# Altium integrated library Circuit Protection -TVSP_rev15a (1).intlib: 320 symbols (part 4 of 4)
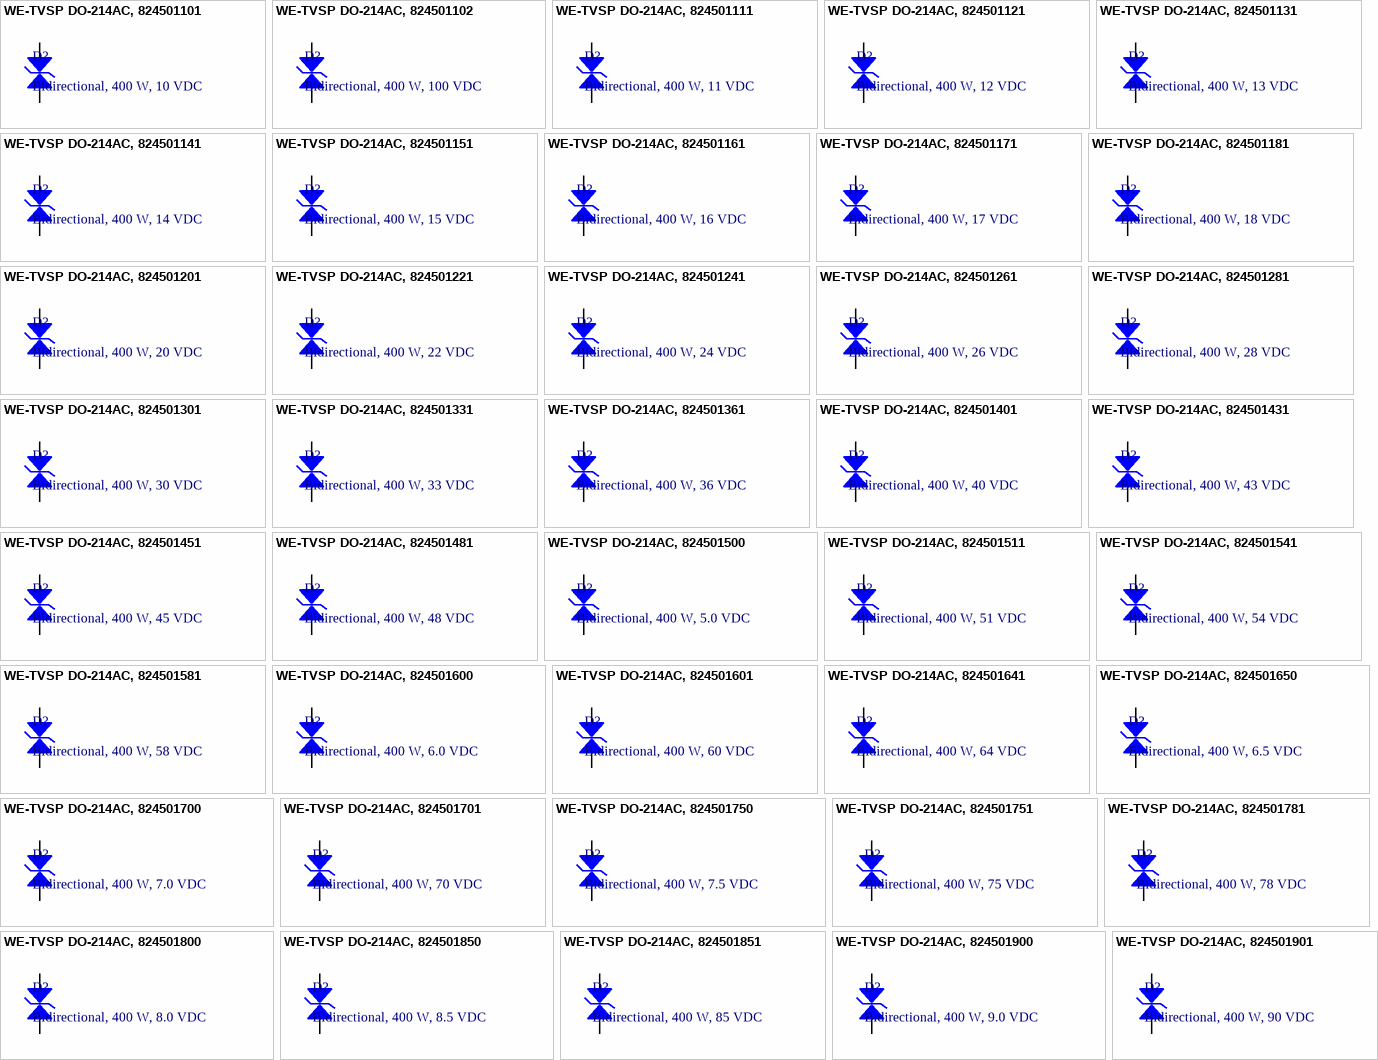
[diagram p10: symbols WE-TVSP DO-214AC, 824501101 to WE-TVSP DO-214AC, 824501901]

## WE-TVSP DO-214AC, 824501601
designator D?, comment Bidirectional, 400 W, 60 VDC
WE-TVSP Power TVS Diode, bidirectional, 400 W, 60 VDC; partNo: 824501601; Manufacturer: Wurth Elektronik; ComponentLink1Description: Manufacturer; ComponentLink1URL: http://www.we-online.de; Created by: Baojun Chen; Created Date: Nov.2015; ComponentLink2Description: Datasheet; ComponentLink2URL: http://katalog.we-online.de/pbs/datasheet/824501601.pdf
footprint DO-214AC_Bidirectional
pins: 1, 2

## WE-TVSP DO-214AC, 824501641
designator D?, comment Bidirectional, 400 W, 64 VDC
WE-TVSP Power TVS Diode, bidirectional, 400 W, 64 VDC; partNo: 824501641; Manufacturer: Wurth Elektronik; ComponentLink1Description: Manufacturer; ComponentLink1URL: http://www.we-online.de; Created by: Baojun Chen; Created Date: Nov.2015; ComponentLink2Description: Datasheet; ComponentLink2URL: http://katalog.we-online.de/pbs/datasheet/824501641.pdf
footprint DO-214AC_Bidirectional
pins: 1, 2

## WE-TVSP DO-214AC, 824501650
designator D?, comment Bidirectional, 400 W, 6.5 VDC
WE-TVSP Power TVS Diode, bidirectional, 400 W, 6.5 VDC; partNo: 824501650; Manufacturer: Wurth Elektronik; ComponentLink1Description: Manufacturer; ComponentLink1URL: http://www.we-online.de; Created by: Baojun Chen; Created Date: Nov.2015; ComponentLink2Description: Datasheet; ComponentLink2URL: http://katalog.we-online.de/pbs/datasheet/824501650.pdf
footprint DO-214AC_Bidirectional
pins: 1, 2

## WE-TVSP DO-214AC, 824501700
designator D?, comment Bidirectional, 400 W, 7.0 VDC
WE-TVSP Power TVS Diode, bidirectional, 400 W, 7.0 VDC; partNo: 824501700; Manufacturer: Wurth Elektronik; ComponentLink1Description: Manufacturer; ComponentLink1URL: http://www.we-online.de; Created by: Baojun Chen; Created Date: Nov.2015; ComponentLink2Description: Datasheet; ComponentLink2URL: http://katalog.we-online.de/pbs/datasheet/824501700.pdf
footprint DO-214AC_Bidirectional
pins: 1, 2

## WE-TVSP DO-214AC, 824501701
designator D?, comment Bidirectional, 400 W, 70 VDC
WE-TVSP Power TVS Diode, bidirectional, 400 W, 70 VDC; partNo: 824501701; Manufacturer: Wurth Elektronik; ComponentLink1Description: Manufacturer; ComponentLink1URL: http://www.we-online.de; Created by: Baojun Chen; Created Date: Nov.2015; ComponentLink2Description: Datasheet; ComponentLink2URL: http://katalog.we-online.de/pbs/datasheet/824501701.pdf
footprint DO-214AC_Bidirectional
pins: 1, 2

## WE-TVSP DO-214AC, 824501750
designator D?, comment Bidirectional, 400 W, 7.5 VDC
WE-TVSP Power TVS Diode, bidirectional, 400 W, 7.5 VDC; partNo: 824501750; Manufacturer: Wurth Elektronik; ComponentLink1Description: Manufacturer; ComponentLink1URL: http://www.we-online.de; Created by: Baojun Chen; Created Date: Nov.2015; ComponentLink2Description: Datasheet; ComponentLink2URL: http://katalog.we-online.de/pbs/datasheet/824501750.pdf
footprint DO-214AC_Bidirectional
pins: 1, 2

## WE-TVSP DO-214AC, 824501751
designator D?, comment Bidirectional, 400 W, 75 VDC
WE-TVSP Power TVS Diode, bidirectional, 400 W, 75 VDC; partNo: 824501751; Manufacturer: Wurth Elektronik; ComponentLink1Description: Manufacturer; ComponentLink1URL: http://www.we-online.de; Created by: Baojun Chen; Created Date: Nov.2015; ComponentLink2Description: Datasheet; ComponentLink2URL: http://katalog.we-online.de/pbs/datasheet/824501751.pdf
footprint DO-214AC_Bidirectional
pins: 1, 2

## WE-TVSP DO-214AC, 824501781
designator D?, comment Bidirectional, 400 W, 78 VDC
WE-TVSP Power TVS Diode, bidirectional, 400 W, 78 VDC; partNo: 824501781; Manufacturer: Wurth Elektronik; ComponentLink1Description: Manufacturer; ComponentLink1URL: http://www.we-online.de; Created by: Baojun Chen; Created Date: Nov.2015; ComponentLink2Description: Datasheet; ComponentLink2URL: http://katalog.we-online.de/pbs/datasheet/824501781.pdf
footprint DO-214AC_Bidirectional
pins: 1, 2

## WE-TVSP DO-214AC, 824501800
designator D?, comment Bidirectional, 400 W, 8.0 VDC
WE-TVSP Power TVS Diode, bidirectional, 400 W, 8.0 VDC; partNo: 824501800; Manufacturer: Wurth Elektronik; ComponentLink1Description: Manufacturer; ComponentLink1URL: http://www.we-online.de; Created by: Baojun Chen; Created Date: Nov.2015; ComponentLink2Description: Datasheet; ComponentLink2URL: http://katalog.we-online.de/pbs/datasheet/824501800.pdf
footprint DO-214AC_Bidirectional
pins: 1, 2

## WE-TVSP DO-214AC, 824501850
designator D?, comment Bidirectional, 400 W, 8.5 VDC
WE-TVSP Power TVS Diode, bidirectional, 400 W, 8.5 VDC; partNo: 824501850; Manufacturer: Wurth Elektronik; ComponentLink1Description: Manufacturer; ComponentLink1URL: http://www.we-online.de; Created by: Baojun Chen; Created Date: Nov.2015; ComponentLink2Description: Datasheet; ComponentLink2URL: http://katalog.we-online.de/pbs/datasheet/824501850.pdf
footprint DO-214AC_Bidirectional
pins: 1, 2

## WE-TVSP DO-214AC, 824501851
designator D?, comment Bidirectional, 400 W, 85 VDC
WE-TVSP Power TVS Diode, bidirectional, 400 W, 85 VDC; partNo: 824501851; Manufacturer: Wurth Elektronik; ComponentLink1Description: Manufacturer; ComponentLink1URL: http://www.we-online.de; Created by: Baojun Chen; Created Date: Nov.2015; ComponentLink2Description: Datasheet; ComponentLink2URL: http://katalog.we-online.de/pbs/datasheet/824501851.pdf
footprint DO-214AC_Bidirectional
pins: 1, 2

## WE-TVSP DO-214AC, 824501900
designator D?, comment Bidirectional, 400 W, 9.0 VDC
WE-TVSP Power TVS Diode, bidirectional, 400 W, 9.0 VDC; partNo: 824501900; Manufacturer: Wurth Elektronik; ComponentLink1Description: Manufacturer; ComponentLink1URL: http://www.we-online.de; Created by: Baojun Chen; Created Date: Nov.2015; ComponentLink2Description: Datasheet; ComponentLink2URL: http://katalog.we-online.de/pbs/datasheet/824501900.pdf
footprint DO-214AC_Bidirectional
pins: 1, 2

## WE-TVSP DO-214AC, 824501901
designator D?, comment Bidirectional, 400 W, 90 VDC
WE-TVSP Power TVS Diode, bidirectional, 400 W, 90 VDC; partNo: 824501901; Manufacturer: Wurth Elektronik; ComponentLink1Description: Manufacturer; ComponentLink1URL: http://www.we-online.de; Created by: Baojun Chen; Created Date: Nov.2015; ComponentLink2Description: Datasheet; ComponentLink2URL: http://katalog.we-online.de/pbs/datasheet/824501901.pdf
footprint DO-214AC_Bidirectional
pins: 1, 2